# EAGLE library part PIC24FJ128GB106 (library iSENSE_Data_Logger)
Microchip 16-bit PIC Microcontroller w/ USB OTG PIC 16-bit microcontroller with USB OTG in various packages.
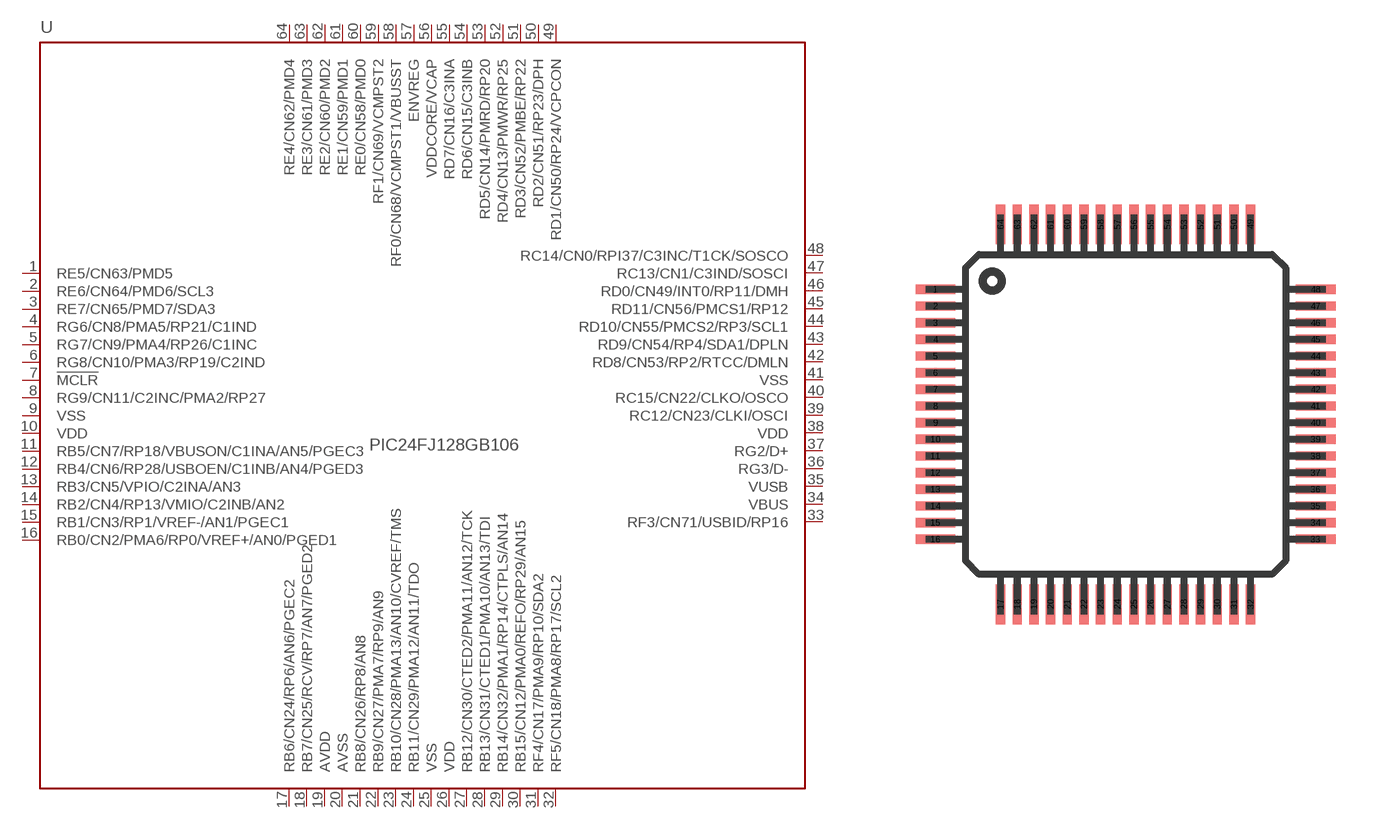
[diagram p6: symbol with the pads of TQFP64-10X10; footprint TQFP64-10X10]

Designator prefix U

## PIC24FJ128GB106-TQFP64 (PN: PIC24FJ128GB106-I/PT)  [TQFP64-10X10]
1  RE5/CN63/PMD5
2  RE6/CN64/PMD6/SCL3
3  RE7/CN65/PMD7/SDA3
4  RG6/CN8/PMA5/RP21/C1IND
5  RG7/CN9/PMA4/RP26/C1INC
6  RG8/CN10/PMA3/RP19/C2IND
7  !MCLR
8  RG9/CN11/C2INC/PMA2/RP27
9  VSS  pwr
10  VDD  pwr
11  RB5/CN7/RP18/VBUSON/C1INA/AN5/PGEC3
12  RB4/CN6/RP28/USBOEN/C1INB/AN4/PGED3
13  RB3/CN5/VPIO/C2INA/AN3
14  RB2/CN4/RP13/VMIO/C2INB/AN2
15  RB1/CN3/RP1/VREF-/AN1/PGEC1
16  RB0/CN2/PMA6/RP0/VREF+/AN0/PGED1
17  RB6/CN24/RP6/AN6/PGEC2
18  RB7/CN25/RCV/RP7/AN7/PGED2
19  AVDD  pwr
20  AVSS  pwr
21  RB8/CN26/RP8/AN8
22  RB9/CN27/PMA7/RP9/AN9
23  RB10/CN28/PMA13/AN10/CVREF/TMS
24  RB11/CN29/PMA12/AN11/TDO
25  VSS  pwr
26  VDD  pwr
27  RB12/CN30/CTED2/PMA11/AN12/TCK
28  RB13/CN31/CTED1/PMA10/AN13/TDI
29  RB14/CN32/PMA1/RP14/CTPLS/AN14
30  RB15/CN12/PMA0/REFO/RP29/AN15
31  RF4/CN17/PMA9/RP10/SDA2
32  RF5/CN18/PMA8/RP17/SCL2
33  RF3/CN71/USBID/RP16
34  VBUS
35  VUSB
36  RG3/D-
37  RG2/D+
38  VDD  pwr
39  RC12/CN23/CLKI/OSCI
40  RC15/CN22/CLKO/OSCO
41  VSS  pwr
42  RD8/CN53/RP2/RTCC/DMLN
43  RD9/CN54/RP4/SDA1/DPLN
44  RD10/CN55/PMCS2/RP3/SCL1
45  RD11/CN56/PMCS1/RP12
46  RD0/CN49/INT0/RP11/DMH
47  RC13/CN1/C3IND/SOSCI
48  RC14/CN0/RPI37/C3INC/T1CK/SOSCO
49  RD1/CN50/RP24/VCPCON
50  RD2/CN51/RP23/DPH
51  RD3/CN52/PMBE/RP22
52  RD4/CN13/PMWR/RP25
53  RD5/CN14/PMRD/RP20
54  RD6/CN15/C3INB
55  RD7/CN16/C3INA
56  VDDCORE/VCAP
57  ENVREG
58  RF0/CN68/VCMPST1/VBUSST
59  RF1/CN69/VCMPST2
60  RE0/CN58/PMD0
61  RE1/CN59/PMD1
62  RE2/CN60/PMD2
63  RE3/CN61/PMD3
64  RE4/CN62/PMD4

## Footprint TQFP64-10X10 (pad centres in mm)
smd 1.2 x 0.28: 1 -5.7,3.75; 2 -5.7,3.25; 3 -5.7,2.75; 4 -5.7,2.25; 5 -5.7,1.75; 6 -5.7,1.25; 7 -5.7,0.75; 8 -5.7,0.25; 9 -5.7,-0.25; 10 -5.7,-0.75; 11 -5.7,-1.25; 12 -5.7,-1.75; 13 -5.7,-2.25; 14 -5.7,-2.75; 15 -5.7,-3.25; 16 -5.7,-3.75; 33 5.7,-3.75; 34 5.7,-3.25; 35 5.7,-2.75; 36 5.7,-2.25; 37 5.7,-1.75; 38 5.7,-1.25; 39 5.7,-0.75; 40 5.7,-0.25; 41 5.7,0.25; 42 5.7,0.75; 43 5.7,1.25; 44 5.7,1.75; 45 5.7,2.25; 46 5.7,2.75; 47 5.7,3.25; 48 5.7,3.75
smd 0.28 x 1.2: 17 -3.75,-5.7; 18 -3.25,-5.7; 19 -2.75,-5.7; 20 -2.25,-5.7; 21 -1.75,-5.7; 22 -1.25,-5.7; 23 -0.75,-5.7; 24 -0.25,-5.7; 25 0.25,-5.7; 26 0.75,-5.7; 27 1.25,-5.7; 28 1.75,-5.7; 29 2.25,-5.7; 30 2.75,-5.7; 31 3.25,-5.7; 32 3.75,-5.7; 49 3.75,5.7; 50 3.25,5.7; 51 2.75,5.7; 52 2.25,5.7; 53 1.75,5.7; 54 1.25,5.7; 55 0.75,5.7; 56 0.25,5.7; 57 -0.25,5.7; 58 -0.75,5.7; 59 -1.25,5.7; 60 -1.75,5.7; 61 -2.25,5.7; 62 -2.75,5.7; 63 -3.25,5.7; 64 -3.75,5.7